# Altium schematic symbol library SCH - ADC - TI AD7052.SCHLIB: 1 symbol
Pins are listed as number, name and electrical type; pins without a type are passive.

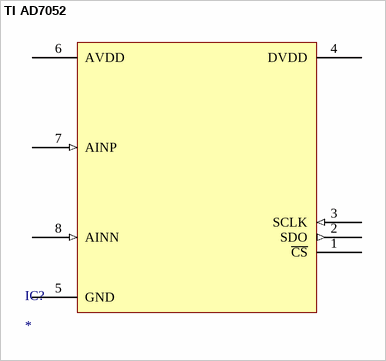
[diagram p0: symbol TI AD7052]

## TI AD7052
designator IC?
pins: 1 ~{CS}, 2 SDO (out), 3 SCLK (in), 4 DVDD (power), 5 GND (power), 6 AVDD (power), 7 AINP (in), 8 AINN (in)